# Altium footprint library TRANS_NVTFS015N04CTAG.PcbLib: 1 footprints
Each footprint in its own frame and in the unit in brackets; x right, y up, seen from the top. Pads: shape width x height; smd on the part's side, far side on the other; paste and mask are expansions set on the pad; w line width, h text height; cw(c..) or ccw(c..) is an arc to the next point about the centre after c.
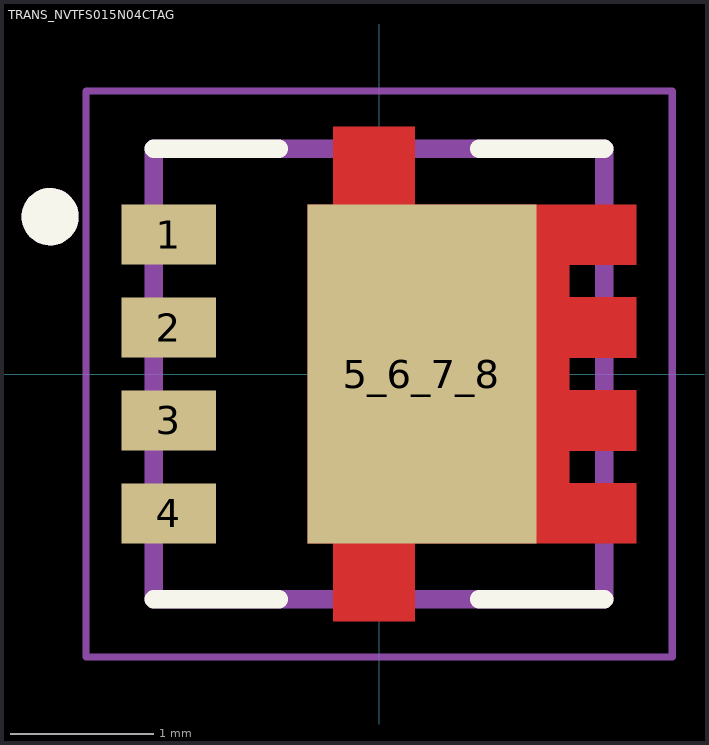
[diagram p0: the footprint, top view; thin cyan lines are the x and y axes]

## TRANS_NVTFS015N04CTAG [mm]
pads (5):
  rect 0.66x0.42 smd: 1(-1.47,0.975) 2(-1.47,0.325) 3(-1.47,-0.325) 4(-1.47,-0.975)
  rect 1.6x2.37 smd paste-2 mask+0: 5_6_7_8(0.3,0)
Top Layer:
  region: 0.25,1.185 1.8,1.185 1.8,0.765 1.33,0.765 1.33,0.535 1.8,0.535 1.8,0.115 1.33,0.115 1.33,-0.115 1.8,-0.115 1.8,-0.535 1.33,-0.535 1.33,-0.765 1.8,-0.765 1.8,-1.185 0.25,-1.185 0.25,-1.73 -0.32,-1.73 -0.32,-1.185 -0.5,-1.185 -0.5,1.185 -0.32,1.185 -0.32,1.73 0.25,1.73
Top Overlay:
  circle w0.2: c-2.3,1.1 r0.1
  lines w0.127: -1.575,-1.575 -0.7,-1.575 ; -1.575,1.575 -0.7,1.575 ; 0.7,-1.575 1.575,-1.575 ; 0.7,1.575 1.575,1.575
Top Paste:
  region: 1.05,-0.51 -0.45,-0.51 -0.45,0.51 1.05,0.51
  region: 0.238,1.172 -0.308,1.172 -0.308,1.753 0.238,1.753
  region: 0.238,-1.753 -0.308,-1.753 -0.308,-1.172 0.238,-1.172
  region: 1.685,0.645 1.255,0.645 1.255,1.305 1.685,1.305
  region: 1.685,-0.005 1.255,-0.005 1.255,0.655 1.685,0.655
  region: 1.685,-0.655 1.255,-0.655 1.255,0.005 1.685,0.005
  region: 1.685,-1.305 1.255,-1.305 1.255,-0.645 1.685,-0.645
Top Solder:
  region: 0.305,1.235 1.85,1.235 1.85,0.71 1.38,0.71 1.38,0.59 1.85,0.59 1.85,0.065 1.38,0.065 1.38,-0.065 1.85,-0.065 1.85,-0.59 1.38,-0.59 1.38,-0.71 1.85,-0.71 1.85,-1.235 0.305,-1.235 0.305,-1.785 -0.375,-1.785 -0.375,-1.235 -0.55,-1.235 -0.55,1.235 -0.375,1.235 -0.375,1.785 0.305,1.785
Mechanical 13:
  circle w0.2: c-2.3,1.1 r0.1
  lines w0.127: -1.575,-1.575 -1.575,1.575 1.575,1.575 1.575,-1.575 -1.575,-1.575
Mechanical 15:
  lines w0.05: -2.05,-1.98 -2.05,1.98 2.05,1.98 2.05,-1.98 -2.05,-1.98
3D body "WDFN8_3P3X3P3_ONS.step": height 0.81, standoff 0, extent -1.702,-1.651 1.6,1.651